# Altium schematic symbol library altium_no_connect.SchLib: 3 symbols
Pins are listed as number, name and electrical type; pins without a type are passive.

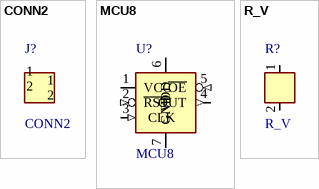
[diagram p0: symbols CONN2 to R_V]

## CONN2
designator J?
Two-pin connector, pins on the left. Fenolite example symbol
pins: 1, 2

## MCU8
designator U?
Eight-pin controller with pins on four sides. Fenolite example symbol
footprint SOIC8
pins: 1 VCC (power), 2 ~{RST} (in), 3 CLK (in), 4 OUT (out), 5 ~{OE} (in), 6 VDD (power), 7 GND (power), 8 TP hidden

## R_V
designator R?
Resistor drawn upright. Fenolite example symbol
pins: 1 ~, 2 ~